# Altium integrated library NSC Audio.IntLib: 691 symbols (part 4 of 18)
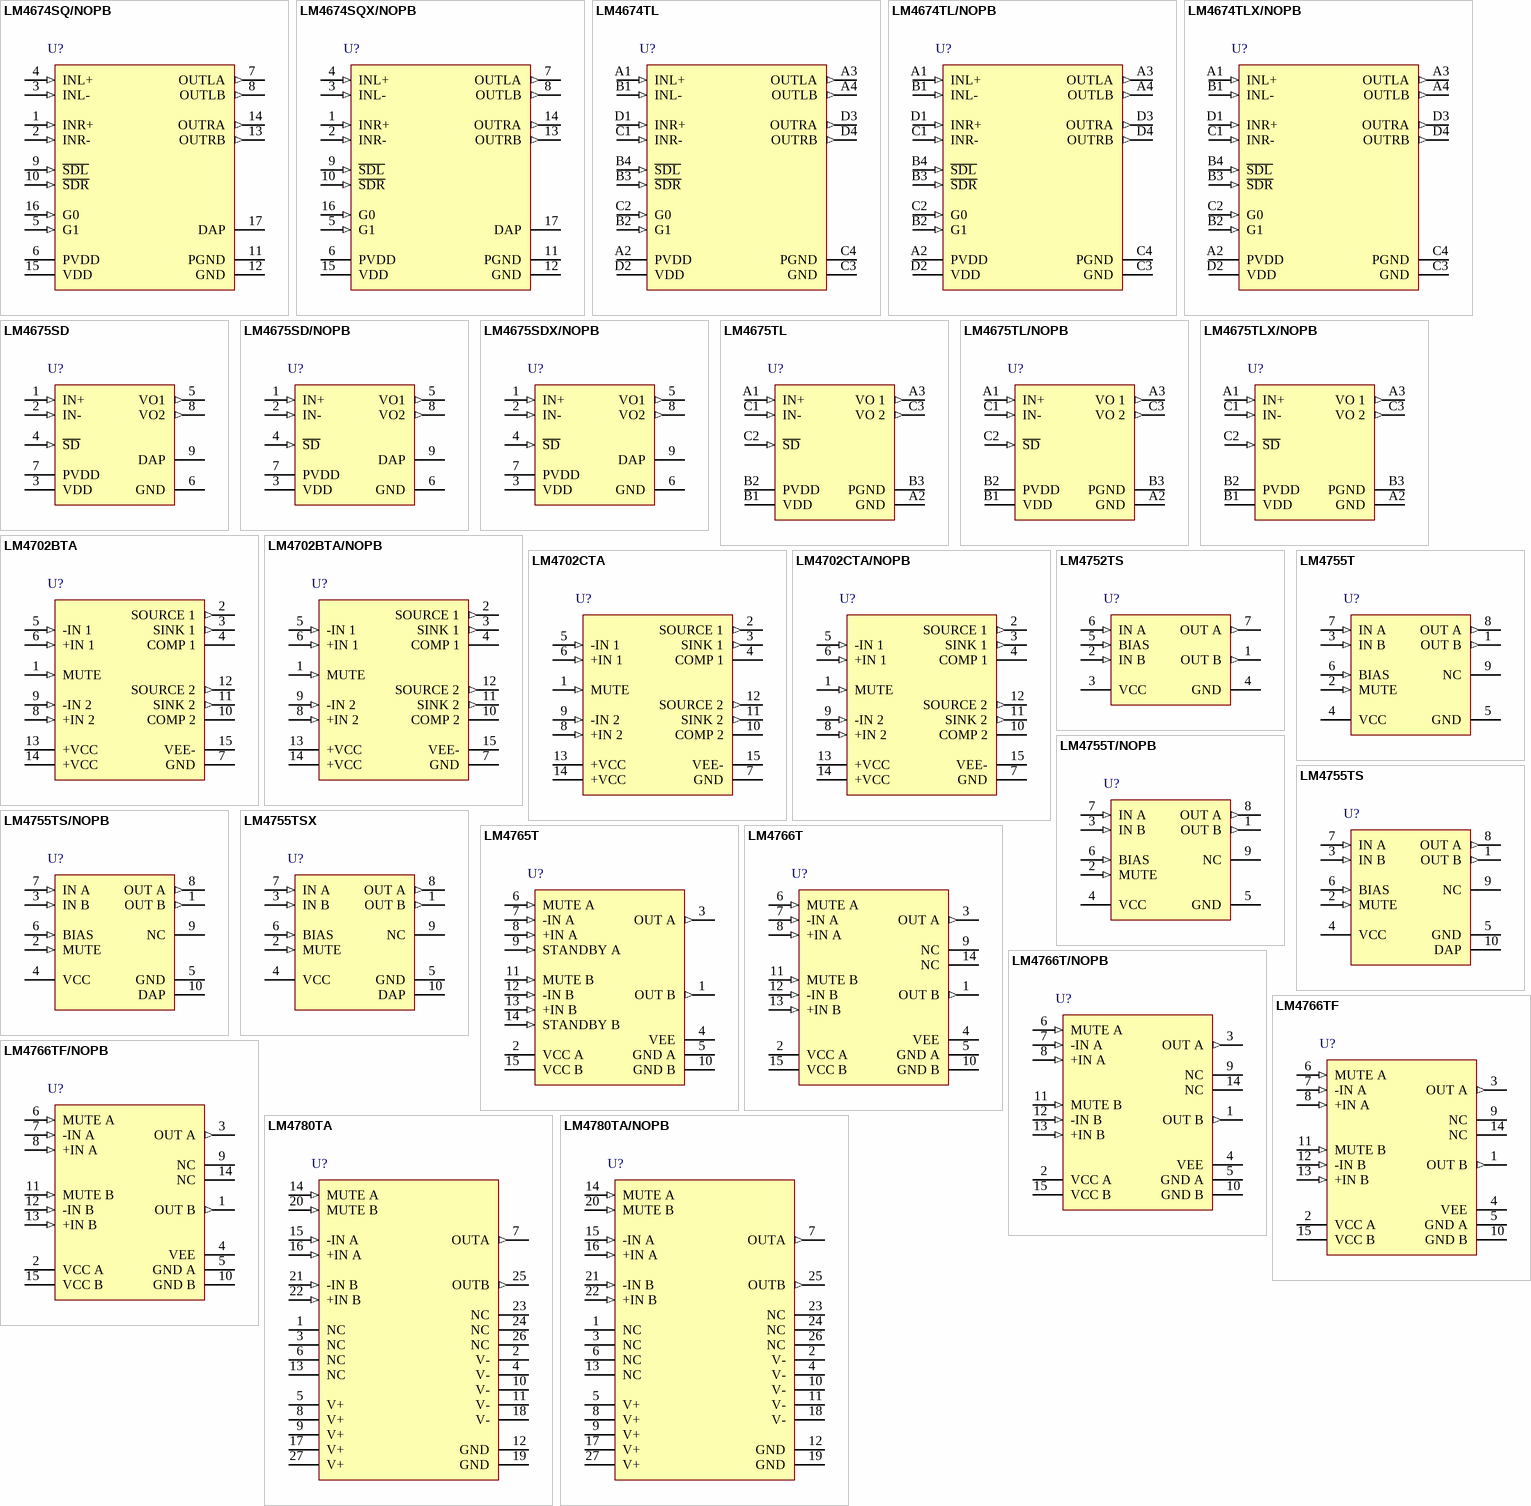
[diagram p30: symbols LM4674SQ/NOPB to LM4780TA/NOPB]

## LM4675SD
designator U?
Ultra-Low EMI, Filterless, 2.65W, Mono, Class D Audio Power Amplifier with Spread Spectrum, 9-pin LLP; PartNumber: LM4675SD; Manufacturer: National Semiconductor; PackageTopMarking: ZXYTT*L4675; PowerWise: N; CompType: Audio IC; Published: 4-Dec-2008; DatasheetVersion: Jul-2008; PackageVersion: revA, Aug-2003; PackageReference: SDA08A; Publisher: Altium Limited; PackageDescription: LLP, Plastic, Dual, 3 x 3 x 0.8mm Body, 8 Lead, 0.5mm Pitch, No Pullback; RoHS: Y; PinCount: 8; ComponentLink1Description: LM4675 Datasheet; ComponentLink1URL: http://www.national.com/ds/LM/LM4675.pdf; ComponentLink2Description: LM4675 Web Page; ComponentLink2URL: http://www.national.com/pf/LM/LM4675.html; ComponentLink3Description: SDA08A Package Page; ComponentLink3URL: http://www.national.com/packaging/folders/sda08a.html
footprint SDA08A (SON, 8-Leads, Body 3x3mm, Pitch 0.5mm, NSC Recommended)
pins: 1 IN+ (in), 2 IN- (in), 3 VDD (power), 4 ~{SD} (in), 5 VO1 (out), 6 GND (power), 7 PVDD (power), 8 VO2 (out), 9 DAP (power)

## LM4675SD/NOPB
designator U?
Ultra-Low EMI, Filterless, 2.65W, Mono, Class D Audio Power Amplifier with Spread Spectrum, 8-pin LLP, Pb-Free; PartNumber: LM4675SD/NOPB; Manufacturer: National Semiconductor; PackageTopMarking: ZXYTT*L4675; PowerWise: N; CompType: Audio IC; Published: 1-Mar-2010; DatasheetVersion: Jul-2008; PackageVersion: revA, Aug-2003; PackageReference: SDA08A; Publisher: Altium Limited; PackageDescription: LLP, Plastic, Dual, 3 x 3 x 0.8mm Body, 8 Lead, 0.5mm Pitch, No Pullback; Supplier 1: Digi-Key; Supplier Part Number 1: LM4675SDTR-ND; Supplier 2: Digi-Key; Supplier Part Number 2: LM4675SDCT-ND; Supplier 3: Digi-Key; Supplier Part Number 3: LM4675SDDKR-ND; Supplier 4: Farnell; Supplier Part Number 4: 1694491; RoHS: Y; PinCount: 8; ComponentLink1Description: LM4675 Datasheet; ComponentLink1URL: http://www.national.com/ds/LM/LM4675.pdf; ComponentLink2Description: LM4675 Web Page; ComponentLink2URL: http://www.national.com/pf/LM/LM4675.html; ComponentLink3Description: SDA08A Package Page; ComponentLink3URL: http://www.national.com/packaging/folders/sda08a.html
footprint SDA08A (SON, 8-Leads, Body 3x3mm, Pitch 0.5mm, NSC Recommended)
pins: 1 IN+ (in), 2 IN- (in), 3 VDD (power), 4 ~{SD} (in), 5 VO1 (out), 6 GND (power), 7 PVDD (power), 8 VO2 (out), 9 DAP (power)

## LM4675SDX/NOPB
designator U?
Ultra-Low EMI, Filterless, 2.65W, Mono, Class D Audio Power Amplifier with Spread Spectrum, 8-pin LLP, Pb-Free; PartNumber: LM4675SDX/NOPB; Manufacturer: National Semiconductor; PackageTopMarking: ZXYTT*L4675; PowerWise: N; CompType: Audio IC; Published: 1-Mar-2010; DatasheetVersion: Jul-2008; PackageVersion: revA, Aug-2003; PackageReference: SDA08A; Publisher: Altium Limited; PackageDescription: LLP, Plastic, Dual, 3 x 3 x 0.8mm Body, 8 Lead, 0.5mm Pitch, No Pullback; Supplier 1: Digi-Key; Supplier Part Number 1: LM4675SDX-ND; RoHS: Y; PinCount: 8; ComponentLink1Description: LM4675 Datasheet; ComponentLink1URL: http://www.national.com/ds/LM/LM4675.pdf; ComponentLink2Description: LM4675 Web Page; ComponentLink2URL: http://www.national.com/pf/LM/LM4675.html; ComponentLink3Description: SDA08A Package Page; ComponentLink3URL: http://www.national.com/packaging/folders/sda08a.html
footprint SDA08A (SON, 8-Leads, Body 3x3mm, Pitch 0.5mm, NSC Recommended)
pins: 1 IN+ (in), 2 IN- (in), 3 VDD (power), 4 ~{SD} (in), 5 VO1 (out), 6 GND (power), 7 PVDD (power), 8 VO2 (out), 9 DAP (power)

## LM4675TL
designator U?
Ultra-Low EMI, Filterless, 2.65W, Mono, Class D Audio Power Amplifier with Spread Spectrum, 9-pin Micro SMD; PartNumber: LM4675TL; Manufacturer: National Semiconductor; PackageTopMarking: XVG*I H8; PowerWise: Y; CompType: Audio IC; Published: 4-Dec-2008; DatasheetVersion: Jul-2008; PackageVersion: revC, Jan-2004; PackageReference: TLA09AAA; Publisher: Altium Limited; PackageDescription: Thin Micro SMD, 9 Bump (Large), 0.5mm Pitch; RoHS: Y; PinCount: 9; Code_JEDEC: MO-211-DD; ComponentLink1Description: LM4675 Datasheet; ComponentLink1URL: http://www.national.com/ds/LM/LM4675.pdf; ComponentLink2Description: LM4675 Web Page; ComponentLink2URL: http://www.national.com/pf/LM/LM4675.html; ComponentLink3Description: TLA09AAA Package Page; ComponentLink3URL: http://www.national.com/packaging/folders/tla09aaa.html
footprint TLA09AAA (Micro SMD, 9-Leads, Body 1.52x1.52mm, Pitch 0.5mm, NSC Recommended)
pins: A1 IN+ (in), A2 GND (power), A3 VO 1 (out), B1 VDD (power), B2 PVDD (power), B3 PGND (power), C1 IN- (in), C2 ~{SD} (in), C3 VO 2 (out)

## LM4675TL/NOPB
designator U?
Ultra-Low EMI, Filterless, 2.65W, Mono, Class D Audio Power Amplifier with Spread Spectrum, 9-pin Micro SMD, Pb-Free; PartNumber: LM4675TL/NOPB; Manufacturer: National Semiconductor; PackageTopMarking: XVG*I H8; PowerWise: Y; CompType: Audio IC; Published: 1-Mar-2010; DatasheetVersion: Jul-2008; PackageVersion: revC, Jan-2004; PackageReference: TLA09AAA; Publisher: Altium Limited; PackageDescription: Thin Micro SMD, 9 Bump (Large), 0.5mm Pitch; Supplier 1: Digi-Key; Supplier Part Number 1: LM4675TLTR-ND; Supplier 2: Digi-Key; Supplier Part Number 2: LM4675TLCT-ND; Supplier 3: Digi-Key; Supplier Part Number 3: LM4675TLDKR-ND; RoHS: Y; PinCount: 9; Code_JEDEC: MO-211-DD; ComponentLink1Description: LM4675 Datasheet; ComponentLink1URL: http://www.national.com/ds/LM/LM4675.pdf; ComponentLink2Description: LM4675 Web Page; ComponentLink2URL: http://www.national.com/pf/LM/LM4675.html; ComponentLink3Description: TLA09AAA Package Page; ComponentLink3URL: http://www.national.com/packaging/folders/tla09aaa.html
footprint TLA09AAA (Micro SMD, 9-Leads, Body 1.52x1.52mm, Pitch 0.5mm, NSC Recommended)
pins: A1 IN+ (in), A2 GND (power), A3 VO 1 (out), B1 VDD (power), B2 PVDD (power), B3 PGND (power), C1 IN- (in), C2 ~{SD} (in), C3 VO 2 (out)

## LM4675TLX/NOPB
designator U?
Ultra-Low EMI, Filterless, 2.65W, Mono, Class D Audio Power Amplifier with Spread Spectrum, 9-pin Micro SMD, Pb-Free; PartNumber: LM4675TLX/NOPB; Manufacturer: National Semiconductor; PackageTopMarking: XVG*I H8; PowerWise: Y; CompType: Audio IC; Published: 1-Mar-2010; DatasheetVersion: Jul-2008; PackageVersion: revC, Jan-2004; PackageReference: TLA09AAA; Publisher: Altium Limited; PackageDescription: Thin Micro SMD, 9 Bump (Large), 0.5mm Pitch; Supplier 1: Digi-Key; Supplier Part Number 1: LM4675TLX-ND; RoHS: Y; PinCount: 9; Code_JEDEC: MO-211-DD; ComponentLink1Description: LM4675 Datasheet; ComponentLink1URL: http://www.national.com/ds/LM/LM4675.pdf; ComponentLink2Description: LM4675 Web Page; ComponentLink2URL: http://www.national.com/pf/LM/LM4675.html; ComponentLink3Description: TLA09AAA Package Page; ComponentLink3URL: http://www.national.com/packaging/folders/tla09aaa.html
footprint TLA09AAA (Micro SMD, 9-Leads, Body 1.52x1.52mm, Pitch 0.5mm, NSC Recommended)
pins: A1 IN+ (in), A2 GND (power), A3 VO 1 (out), B1 VDD (power), B2 PVDD (power), B3 PGND (power), C1 IN- (in), C2 ~{SD} (in), C3 VO 2 (out)

## LM4702BTA
designator U?
Stereo High Fidelity 200 Volt Driver with Mute, 15-pin TO-220; PartNumber: LM4702BTA; Manufacturer: National Semiconductor; PackageTopMarking: NSUZXYTTE#*LM4702BTA; PowerWise: N; CompType: Audio IC; Published: 4-Dec-2008; DatasheetVersion: Sep-2006; PackageVersion: revA, Nov-1985; PackageReference: TA15A; Publisher: Altium Limited; PackageDescription: TO-220, Molded, .788 x .421in Body, 15 Lead, .05in Pitch; RoHS: Y; PinCount: 15; ComponentLink1Description: LM4702 Datasheet; ComponentLink1URL: http://www.national.com/ds/LM/LM4702.pdf; ComponentLink2Description: LM4702 Web Page; ComponentLink2URL: http://www.national.com/pf/LM/LM4702.html; ComponentLink3Description: TA15A Package Page; ComponentLink3URL: http://www.national.com/packaging/folders/ta15a.html
footprint TA15A (TO, Thru-Hole, Vertical, Heatsink Mounted; 15 Bent Staggered Leads; Body 20x10.7x4.5mm, Pitch 1.27 mm)
pins: 1 MUTE (in), 2 SOURCE 1 (out), 3 SINK 1 (out), 4 COMP 1, 5 -IN 1 (in), 6 +IN 1 (in), 7 GND (power), 8 +IN 2 (in), 9 -IN 2 (in), 10 COMP 2, 11 SINK 2 (out), 12 SOURCE 2 (out), 13 +VCC (power), 14 +VCC (power), 15 VEE- (power)

## LM4702BTA/NOPB
designator U?
Stereo High Fidelity 200 Volt Driver with Mute, 15-pin TO-220, Pb-Free; PartNumber: LM4702BTA/NOPB; Manufacturer: National Semiconductor; PackageTopMarking: NSUZXYTTE#*LM4702BTA; PowerWise: N; CompType: Audio IC; Published: 1-Mar-2010; DatasheetVersion: Sep-2006; PackageVersion: revA, Nov-1985; PackageReference: TA15A; Publisher: Altium Limited; PackageDescription: TO-220, Molded, .788 x .421in Body, 15 Lead, .05in Pitch; Supplier 1: Digi-Key; Supplier Part Number 1: LM4702BTA-ND; Supplier 2: Farnell; Supplier Part Number 2: 1685367; RoHS: Y; PinCount: 15; ComponentLink1Description: LM4702 Datasheet; ComponentLink1URL: http://www.national.com/ds/LM/LM4702.pdf; ComponentLink2Description: LM4702 Web Page; ComponentLink2URL: http://www.national.com/pf/LM/LM4702.html; ComponentLink3Description: TA15A Package Page; ComponentLink3URL: http://www.national.com/packaging/folders/ta15a.html
footprint TA15A (TO, Thru-Hole, Vertical, Heatsink Mounted; 15 Bent Staggered Leads; Body 20x10.7x4.5mm, Pitch 1.27 mm)
pins: 1 MUTE (in), 2 SOURCE 1 (out), 3 SINK 1 (out), 4 COMP 1, 5 -IN 1 (in), 6 +IN 1 (in), 7 GND (power), 8 +IN 2 (in), 9 -IN 2 (in), 10 COMP 2, 11 SINK 2 (out), 12 SOURCE 2 (out), 13 +VCC (power), 14 +VCC (power), 15 VEE- (power)

## LM4702CTA
designator U?
Stereo High Fidelity 200 Volt Driver with Mute, 15-pin TO-220; PartNumber: LM4702CTA; Manufacturer: National Semiconductor; PackageTopMarking: NSUZXYTTE#*LM4702CTA; PowerWise: N; CompType: Audio IC; Published: 4-Dec-2008; DatasheetVersion: Sep-2006; PackageVersion: revA, Nov-1985; PackageReference: TA15A; Publisher: Altium Limited; PackageDescription: TO-220, Molded, .788 x .421in Body, 15 Lead, .05in Pitch; Supplier 1: Farnell; Supplier Part Number 1: 1286760; RoHS: N; PinCount: 15; ComponentLink1Description: LM4702 Datasheet; ComponentLink1URL: http://www.national.com/ds/LM/LM4702.pdf; ComponentLink2Description: LM4702 Web Page; ComponentLink2URL: http://www.national.com/pf/LM/LM4702.html; ComponentLink3Description: TA15A Package Page; ComponentLink3URL: http://www.national.com/packaging/folders/ta15a.html
footprint TA15A (TO, Thru-Hole, Vertical, Heatsink Mounted; 15 Bent Staggered Leads; Body 20x10.7x4.5mm, Pitch 1.27 mm)
pins: 1 MUTE (in), 2 SOURCE 1 (out), 3 SINK 1 (out), 4 COMP 1, 5 -IN 1 (in), 6 +IN 1 (in), 7 GND (power), 8 +IN 2 (in), 9 -IN 2 (in), 10 COMP 2, 11 SINK 2 (out), 12 SOURCE 2 (out), 13 +VCC (power), 14 +VCC (power), 15 VEE- (power)

## LM4702CTA/NOPB
designator U?
Stereo High Fidelity 200 Volt Driver with Mute, 15-pin TO-220, Pb-Free; PartNumber: LM4702CTA/NOPB; Manufacturer: National Semiconductor; PackageTopMarking: NSUZXYTTE#*LM4702CTA; PowerWise: N; CompType: Audio IC; Published: 1-Mar-2010; DatasheetVersion: Sep-2006; PackageVersion: revA, Nov-1985; PackageReference: TA15A; Publisher: Altium Limited; PackageDescription: TO-220, Molded, .788 x .421in Body, 15 Lead, .05in Pitch; Supplier 1: Digi-Key; Supplier Part Number 1: LM4702CTA-ND; Supplier 2: Farnell; Supplier Part Number 2: 1654356; RoHS: Y; PinCount: 15; ComponentLink1Description: LM4702 Datasheet; ComponentLink1URL: http://www.national.com/ds/LM/LM4702.pdf; ComponentLink2Description: LM4702 Web Page; ComponentLink2URL: http://www.national.com/pf/LM/LM4702.html; ComponentLink3Description: TA15A Package Page; ComponentLink3URL: http://www.national.com/packaging/folders/ta15a.html
footprint TA15A (TO, Thru-Hole, Vertical, Heatsink Mounted; 15 Bent Staggered Leads; Body 20x10.7x4.5mm, Pitch 1.27 mm)
pins: 1 MUTE (in), 2 SOURCE 1 (out), 3 SINK 1 (out), 4 COMP 1, 5 -IN 1 (in), 6 +IN 1 (in), 7 GND (power), 8 +IN 2 (in), 9 -IN 2 (in), 10 COMP 2, 11 SINK 2 (out), 12 SOURCE 2 (out), 13 +VCC (power), 14 +VCC (power), 15 VEE- (power)

## LM4752TS
designator U?
Stereo 11W Audio Power Amplifier, 7-pin TO-263; PartNumber: LM4752TS; Manufacturer: National Semiconductor; PackageTopMarking: NSUZXYTTE#*LM4752TS; PowerWise: N; CompType: Audio IC; Published: 4-Dec-2008; DatasheetVersion: May-2008; PackageVersion: revE, Jul-2003; PackageReference: TS7B; Publisher: Altium Limited; PackageDescription: TO-263, Molded, .400 x .390 x .180in Body, 7 Lead, .050in Pitch, Surface Mount; Supplier 1: Farnell; Supplier Part Number 1: 1798325; RoHS: N; PinCount: 7; Code_JEDEC: MO-169-AC; ComponentLink1Description: LM4752 Datasheet; ComponentLink1URL: http://www.national.com/ds/LM/LM4752.pdf; ComponentLink2Description: LM4752 Web Page; ComponentLink2URL: http://www.national.com/pf/LM/LM4752.html; ComponentLink3Description: TS7B Package Page; ComponentLink3URL: http://www.national.com/packaging/folders/ts7b.html
footprint TS7B_N (D2-PAK, 8-Leads, Body 8.6x10.2mm, Pitch 1.27mm, Lead Span 14.1mm, IPC Medium Density)
footprint TS7B_L (D2-PAK, 8-Leads, Body 8.6x10.2mm, Pitch 1.27mm, Lead Span 14.1mm, IPC High Density)
footprint TS7B_M (D2-PAK, 8-Leads, Body 8.6x10.2mm, Pitch 1.27mm, Lead Span 14.1mm, IPC Low Density)
pins: 1 OUT B (out), 2 IN B (in), 3 VCC (power), 4 GND (power), 5 BIAS (in), 6 IN A (in), 7 OUT A (out)

## LM4755T
designator U?
Stereo 11W Audio Power Amplifier with Mute, 9-pin TO-220; PartNumber: LM4755T; Manufacturer: National Semiconductor; PackageTopMarking: NSUZXYTTE#*LM4755T; PowerWise: N; CompType: Audio IC; Published: 29-May-2009; DatasheetVersion: May-2008; PackageVersion: revC, Jul-1999; PackageReference: TA09A; Publisher: Altium Limited; PackageDescription: TO-220, Molded, 9 Lead, Staggered; RoHS: N; PinCount: 9; ComponentLink1Description: LM4755 Datasheet; ComponentLink1URL: http://www.national.com/ds/LM/LM4755.pdf; ComponentLink2Description: LM4755 Web Page; ComponentLink2URL: http://www.national.com/pf/LM/LM4755.html; ComponentLink3Description: TA09A Package Page; ComponentLink3URL: http://www.national.com/packaging/folders/ta09a.html
footprint TA09A (TO, Thru-Hole, Vertical, Heatsink Mounted; 9 Bent Staggered Leads; Body 10.2x8.7x4.6mm, Pitch 0.97 mm)
pins: 1 OUT B (out), 2 MUTE (in), 3 IN B (in), 4 VCC (power), 5 GND (power), 6 BIAS (in), 7 IN A (in), 8 OUT A (out), 9 NC

## LM4755T/NOPB
designator U?
Stereo 11W Audio Power Amplifier with Mute, 9-pin TO-220, Pb-Free; PartNumber: LM4755T/NOPB; Manufacturer: National Semiconductor; PackageTopMarking: NSUZXYTTE#*LM4755T; PowerWise: N; CompType: Audio IC; Published: 1-Mar-2010; DatasheetVersion: May-2008; PackageVersion: revC, Jul-1999; PackageReference: TA09A; Publisher: Altium Limited; PackageDescription: TO-220, Molded, 9 Lead, Staggered; Supplier 1: Digi-Key; Supplier Part Number 1: LM4755T-ND; Supplier 2: Farnell; Supplier Part Number 2: 1564691; RoHS: Y; PinCount: 9; ComponentLink1Description: LM4755 Datasheet; ComponentLink1URL: http://www.national.com/ds/LM/LM4755.pdf; ComponentLink2Description: LM4755 Web Page; ComponentLink2URL: http://www.national.com/pf/LM/LM4755.html; ComponentLink3Description: TA09A Package Page; ComponentLink3URL: http://www.national.com/packaging/folders/ta09a.html
footprint TA09A (TO, Thru-Hole, Vertical, Heatsink Mounted; 9 Bent Staggered Leads; Body 10.2x8.7x4.6mm, Pitch 0.97 mm)
pins: 1 OUT B (out), 2 MUTE (in), 3 IN B (in), 4 VCC (power), 5 GND (power), 6 BIAS (in), 7 IN A (in), 8 OUT A (out), 9 NC

## LM4755TS
designator U?
Stereo 11W Audio Power Amplifier with Mute, 9-pin TO-263; PartNumber: LM4755TS; Manufacturer: National Semiconductor; PackageTopMarking: NSUZXYTTE#*LM4755TS; PowerWise: N; CompType: Audio IC; Published: 4-Dec-2008; DatasheetVersion: May-2008; PackageVersion: revB, Dec-2004; PackageReference: TS9A; Publisher: Altium Limited; PackageDescription: TO-263, Molded, 9 Lead, Surface Mount; RoHS: N; PinCount: 9; ComponentLink1Description: LM4755 Datasheet; ComponentLink1URL: http://www.national.com/ds/LM/LM4755.pdf; ComponentLink2Description: LM4755 Web Page; ComponentLink2URL: http://www.national.com/pf/LM/LM4755.html; ComponentLink3Description: TS9A Package Page; ComponentLink3URL: http://www.national.com/packaging/folders/ts9a.html
footprint TS9A_N (D2-PAK, 10-Leads, Body 8.7x10.2mm, Pitch 0.97mm, Lead Span 14.1mm, IPC Medium Density)
footprint TS9A_L (D2-PAK, 10-Leads, Body 8.7x10.2mm, Pitch 0.97mm, Lead Span 14.1mm, IPC High Density)
footprint TS9A_M (D2-PAK, 10-Leads, Body 8.7x10.2mm, Pitch 0.97mm, Lead Span 14.1mm, IPC Low Density)
pins: 1 OUT B (out), 2 MUTE (in), 3 IN B (in), 4 VCC (power), 5 GND (power), 6 BIAS (in), 7 IN A (in), 8 OUT A (out), 9 NC, 10 DAP (power)

## LM4755TS/NOPB
designator U?
Stereo 11W Audio Power Amplifier with Mute, 9-pin TO-263, Pb-Free; PartNumber: LM4755TS/NOPB; Manufacturer: National Semiconductor; PackageTopMarking: NSUZXYTTE#*LM4755TS; PowerWise: N; CompType: Audio IC; Published: 1-Mar-2010; DatasheetVersion: May-2008; PackageVersion: revB, Dec-2004; PackageReference: TS9A; Publisher: Altium Limited; PackageDescription: TO-263, Molded, 9 Lead, Surface Mount; Supplier 1: Digi-Key; Supplier Part Number 1: LM4755TS-ND; Supplier 2: Farnell; Supplier Part Number 2: 1685378; RoHS: Y; PinCount: 9; ComponentLink1Description: LM4755 Datasheet; ComponentLink1URL: http://www.national.com/ds/LM/LM4755.pdf; ComponentLink2Description: LM4755 Web Page; ComponentLink2URL: http://www.national.com/pf/LM/LM4755.html; ComponentLink3Description: TS9A Package Page; ComponentLink3URL: http://www.national.com/packaging/folders/ts9a.html
footprint TS9A_N (D2-PAK, 10-Leads, Body 8.7x10.2mm, Pitch 0.97mm, Lead Span 14.1mm, IPC Medium Density)
footprint TS9A_L (D2-PAK, 10-Leads, Body 8.7x10.2mm, Pitch 0.97mm, Lead Span 14.1mm, IPC High Density)
footprint TS9A_M (D2-PAK, 10-Leads, Body 8.7x10.2mm, Pitch 0.97mm, Lead Span 14.1mm, IPC Low Density)
pins: 1 OUT B (out), 2 MUTE (in), 3 IN B (in), 4 VCC (power), 5 GND (power), 6 BIAS (in), 7 IN A (in), 8 OUT A (out), 9 NC, 10 DAP (power)

## LM4755TSX
designator U?
Stereo 11W Audio Power Amplifier with Mute, 9-pin TO-263; PartNumber: LM4755TSX; Manufacturer: National Semiconductor; PackageTopMarking: NSUZXYTTE#*LM4755TS; PowerWise: N; CompType: Audio IC; Published: 1-Mar-2010; DatasheetVersion: May-2008; PackageVersion: revB, Dec-2004; PackageReference: TS9A; Publisher: Altium Limited; PackageDescription: TO-263, Molded, 9 Lead, Surface Mount; RoHS: N; PinCount: 9; ComponentLink1Description: LM4755 Datasheet; ComponentLink1URL: http://www.national.com/ds/LM/LM4755.pdf; ComponentLink2Description: LM4755 Web Page; ComponentLink2URL: http://www.national.com/pf/LM/LM4755.html; ComponentLink3Description: TS9A Package Page; ComponentLink3URL: http://www.national.com/packaging/folders/ts9a.html
footprint TS9A_N (D2-PAK, 10-Leads, Body 8.7x10.2mm, Pitch 0.97mm, Lead Span 14.1mm, IPC Medium Density)
footprint TS9A_L (D2-PAK, 10-Leads, Body 8.7x10.2mm, Pitch 0.97mm, Lead Span 14.1mm, IPC High Density)
footprint TS9A_M (D2-PAK, 10-Leads, Body 8.7x10.2mm, Pitch 0.97mm, Lead Span 14.1mm, IPC Low Density)
pins: 1 OUT B (out), 2 MUTE (in), 3 IN B (in), 4 VCC (power), 5 GND (power), 6 BIAS (in), 7 IN A (in), 8 OUT A (out), 9 NC, 10 DAP (power)

## LM4765T
designator U?
Overture Audio Power Amplifier Series Dual 30-Watt Audio Power Amplifier with Mute and Standby Modes, 15-pin TO-220; PartNumber: LM4765T; Manufacturer: National Semiconductor; PackageTopMarking: NSUZXYTTE#*LM4765T; PowerWise: N; CompType: Audio IC; Published: 4-Dec-2008; DatasheetVersion: Aug-2000; PackageVersion: revA, Nov-1985; PackageReference: TA15A; Publisher: Altium Limited; PackageDescription: TO-220, Molded, .788 x .421in Body, 15 Lead, .05in Pitch; RoHS: N; PinCount: 15; ComponentLink1Description: LM4765 Datasheet; ComponentLink1URL: http://www.national.com/ds/LM/LM4765.pdf; ComponentLink2Description: LM4765 Web Page; ComponentLink2URL: http://www.national.com/pf/LM/LM4765.html; ComponentLink3Description: TA15A Package Page; ComponentLink3URL: http://www.national.com/packaging/folders/ta15a.html
footprint TA15A (TO, Thru-Hole, Vertical, Heatsink Mounted; 15 Bent Staggered Leads; Body 20x10.7x4.5mm, Pitch 1.27 mm)
pins: 1 OUT B (out), 2 VCC A (power), 3 OUT A (out), 4 VEE (power), 5 GND A (power), 6 MUTE A (in), 7 -IN A (in), 8 +IN A (in), 9 STANDBY A (in), 10 GND B (power), 11 MUTE B (in), 12 -IN B (in), 13 +IN B (in), 14 STANDBY B (in), 15 VCC B (power)

## LM4766T
designator U?
Overture Audio Power Amplifier Series Dual 40-Watt Audio Power Amplifier with Mute, 15-pin TO-220; PartNumber: LM4766T; Manufacturer: National Semiconductor; PackageTopMarking: NSUZXYTTE#*LM4766T; PowerWise: N; CompType: Audio IC; Published: 4-Dec-2008; DatasheetVersion: Mar-2006; PackageVersion: revA, Nov-1985; PackageReference: TA15A; Publisher: Altium Limited; PackageDescription: TO-220, Molded, .788 x .421in Body, 15 Lead, .05in Pitch; Supplier 1: Farnell; Supplier Part Number 1: 9485864; RoHS: N; PinCount: 15; ComponentLink1Description: LM4766 Datasheet; ComponentLink1URL: http://www.national.com/ds/LM/LM4766.pdf; ComponentLink2Description: LM4766 Web Page; ComponentLink2URL: http://www.national.com/pf/LM/LM4766.html; ComponentLink3Description: TA15A Package Page; ComponentLink3URL: http://www.national.com/packaging/folders/ta15a.html
footprint TA15A (TO, Thru-Hole, Vertical, Heatsink Mounted; 15 Bent Staggered Leads; Body 20x10.7x4.5mm, Pitch 1.27 mm)
pins: 1 OUT B (out), 2 VCC A (power), 3 OUT A (out), 4 VEE (power), 5 GND A (power), 6 MUTE A (in), 7 -IN A (in), 8 +IN A (in), 9 NC, 10 GND B (power), 11 MUTE B (in), 12 -IN B (in), 13 +IN B (in), 14 NC, 15 VCC B (power)

## LM4766T/NOPB
designator U?
Overture Audio Power Amplifier Series Dual 40-Watt Audio Power Amplifier with Mute, 15-pin TO-220, Pb-Free; PartNumber: LM4766T/NOPB; Manufacturer: National Semiconductor; PackageTopMarking: NSUZXYTTE#*LM4766T; PowerWise: N; CompType: Audio IC; Published: 1-Mar-2010; DatasheetVersion: Mar-2006; PackageVersion: revA, Nov-1985; PackageReference: TA15A; Publisher: Altium Limited; PackageDescription: TO-220, Molded, .788 x .421in Body, 15 Lead, .05in Pitch; Supplier 1: Digi-Key; Supplier Part Number 1: LM4766T-ND; Supplier 2: Farnell; Supplier Part Number 2: 1184990; RoHS: Y; PinCount: 15; ComponentLink1Description: LM4766 Datasheet; ComponentLink1URL: http://www.national.com/ds/LM/LM4766.pdf; ComponentLink2Description: LM4766 Web Page; ComponentLink2URL: http://www.national.com/pf/LM/LM4766.html; ComponentLink3Description: TA15A Package Page; ComponentLink3URL: http://www.national.com/packaging/folders/ta15a.html
footprint TA15A (TO, Thru-Hole, Vertical, Heatsink Mounted; 15 Bent Staggered Leads; Body 20x10.7x4.5mm, Pitch 1.27 mm)
pins: 1 OUT B (out), 2 VCC A (power), 3 OUT A (out), 4 VEE (power), 5 GND A (power), 6 MUTE A (in), 7 -IN A (in), 8 +IN A (in), 9 NC, 10 GND B (power), 11 MUTE B (in), 12 -IN B (in), 13 +IN B (in), 14 NC, 15 VCC B (power)

## LM4766TF
designator U?
Overture Audio Power Amplifier Series Dual 40-Watt Audio Power Amplifier with Mute, 15-pin Isolated TO220; PartNumber: LM4766TF; Manufacturer: National Semiconductor; PackageTopMarking: NSUZXYTTE#*LM4766TF; PowerWise: N; CompType: Audio IC; Published: 4-Dec-2008; DatasheetVersion: Mar-2006; PackageVersion: revB, Feb-1994; PackageReference: TF15B; Publisher: Altium Limited; PackageDescription: TO-220, Molded, 15 Lead, Staggered, Isolated; RoHS: N; PinCount: 15; ComponentLink1Description: LM4766 Datasheet; ComponentLink1URL: http://www.national.com/ds/LM/LM4766.pdf; ComponentLink2Description: LM4766 Web Page; ComponentLink2URL: http://www.national.com/pf/LM/LM4766.html; ComponentLink3Description: TF15B Package Page; ComponentLink3URL: http://www.national.com/packaging/folders/tf15b.html
footprint TF15B (TO, Thru-Hole, Vertical, Heatsink Mounted; 15 Bent Staggered Leads; Body 20x10.6x4.5mm, Pitch 1.27 mm)
pins: 1 OUT B (out), 2 VCC A (power), 3 OUT A (out), 4 VEE (power), 5 GND A (power), 6 MUTE A (in), 7 -IN A (in), 8 +IN A (in), 9 NC, 10 GND B (power), 11 MUTE B (in), 12 -IN B (in), 13 +IN B (in), 14 NC, 15 VCC B (power)

## LM4766TF/NOPB
designator U?
Overture Audio Power Amplifier Series Dual 40-Watt Audio Power Amplifier with Mute, 15-pin Isolated TO220, Pb-Free; PartNumber: LM4766TF/NOPB; Manufacturer: National Semiconductor; PackageTopMarking: NSUZXYTTE#*LM4766TF; PowerWise: N; CompType: Audio IC; Published: 1-Mar-2010; DatasheetVersion: Mar-2006; PackageVersion: revB, Feb-1994; PackageReference: TF15B; Publisher: Altium Limited; PackageDescription: TO-220, Molded, 15 Lead, Staggered, Isolated; Supplier 1: Digi-Key; Supplier Part Number 1: LM4766TF-ND; Supplier 2: Farnell; Supplier Part Number 2: 1685379; RoHS: Y; PinCount: 15; ComponentLink1Description: LM4766 Datasheet; ComponentLink1URL: http://www.national.com/ds/LM/LM4766.pdf; ComponentLink2Description: LM4766 Web Page; ComponentLink2URL: http://www.national.com/pf/LM/LM4766.html; ComponentLink3Description: TF15B Package Page; ComponentLink3URL: http://www.national.com/packaging/folders/tf15b.html
footprint TF15B (TO, Thru-Hole, Vertical, Heatsink Mounted; 15 Bent Staggered Leads; Body 20x10.6x4.5mm, Pitch 1.27 mm)
pins: 1 OUT B (out), 2 VCC A (power), 3 OUT A (out), 4 VEE (power), 5 GND A (power), 6 MUTE A (in), 7 -IN A (in), 8 +IN A (in), 9 NC, 10 GND B (power), 11 MUTE B (in), 12 -IN B (in), 13 +IN B (in), 14 NC, 15 VCC B (power)

## LM4780TA
designator U?
Overture Audio Power Amplifier Series Stereo 60W, Mono 120W Audio Power Amplifier with Mute, 27-pin TO-220; PartNumber: LM4780TA; Manufacturer: National Semiconductor; PackageTopMarking: NSUZXYTTE#*L4780TA; PowerWise: N; CompType: Audio IC; Published: 4-Dec-2008; DatasheetVersion: Jan-2010; PackageVersion: revB, Apr-2003; PackageReference: TA27A; Publisher: Altium Limited; PackageDescription: TO-220, Molded, 1.150 x .618 x .177in Body, 27 Lead, .040in Pitch; Supplier 1: Farnell; Supplier Part Number 1: 9490620; RoHS: N; PinCount: 27; ComponentLink1Description: LM4780 Datasheet; ComponentLink1URL: http://www.national.com/ds/LM/LM4780.pdf; ComponentLink2Description: LM4780 Web Page; ComponentLink2URL: http://www.national.com/pf/LM/LM4780.html; ComponentLink3Description: TA27A Package Page; ComponentLink3URL: http://www.national.com/packaging/folders/ta27a.html
footprint TA27A (In-Line; 27 Zig-Zag Leads; Body 29.2 x 4.5mm; Pitch 1mm)
pins: 1 NC, 2 V- (power), 3 NC, 4 V- (power), 5 V+ (power), 6 NC, 7 OUTA (out), 8 V+ (power), 9 V+ (power), 10 V- (power), 11 V- (power), 12 GND (power), 13 NC, 14 MUTE A (in), 15 -IN A (in), 16 +IN A (in), 17 V+ (power), 18 V- (power), 19 GND (power), 20 MUTE B (in), 21 -IN B (in), 22 +IN B (in), 23 NC, 24 NC, 25 OUTB (out), 26 NC, 27 V+ (power)

## LM4780TA/NOPB
designator U?
Overture Audio Power Amplifier Series Stereo 60W, Mono 120W Audio Power Amplifier with Mute, 27-pin TO-220, Pb-Free; PartNumber: LM4780TA/NOPB; Manufacturer: National Semiconductor; PackageTopMarking: NSUZXYTTE#*L4780TA; PowerWise: N; CompType: Audio IC; Published: 1-Mar-2010; DatasheetVersion: Jan-2010; PackageVersion: revB, Apr-2003; PackageReference: TA27A; Publisher: Altium Limited; PackageDescription: TO-220, Molded, 1.150 x .618 x .177in Body, 27 Lead, .040in Pitch; Supplier 1: Digi-Key; Supplier Part Number 1: LM4780TA-ND; Supplier 2: Farnell; Supplier Part Number 2: 1694355; RoHS: Y; PinCount: 27; ComponentLink1Description: LM4780 Datasheet; ComponentLink1URL: http://www.national.com/ds/LM/LM4780.pdf; ComponentLink2Description: LM4780 Web Page; ComponentLink2URL: http://www.national.com/pf/LM/LM4780.html; ComponentLink3Description: TA27A Package Page; ComponentLink3URL: http://www.national.com/packaging/folders/ta27a.html
footprint TA27A (In-Line; 27 Zig-Zag Leads; Body 29.2 x 4.5mm; Pitch 1mm)
pins: 1 NC, 2 V- (power), 3 NC, 4 V- (power), 5 V+ (power), 6 NC, 7 OUTA (out), 8 V+ (power), 9 V+ (power), 10 V- (power), 11 V- (power), 12 GND (power), 13 NC, 14 MUTE A (in), 15 -IN A (in), 16 +IN A (in), 17 V+ (power), 18 V- (power), 19 GND (power), 20 MUTE B (in), 21 -IN B (in), 22 +IN B (in), 23 NC, 24 NC, 25 OUTB (out), 26 NC, 27 V+ (power)

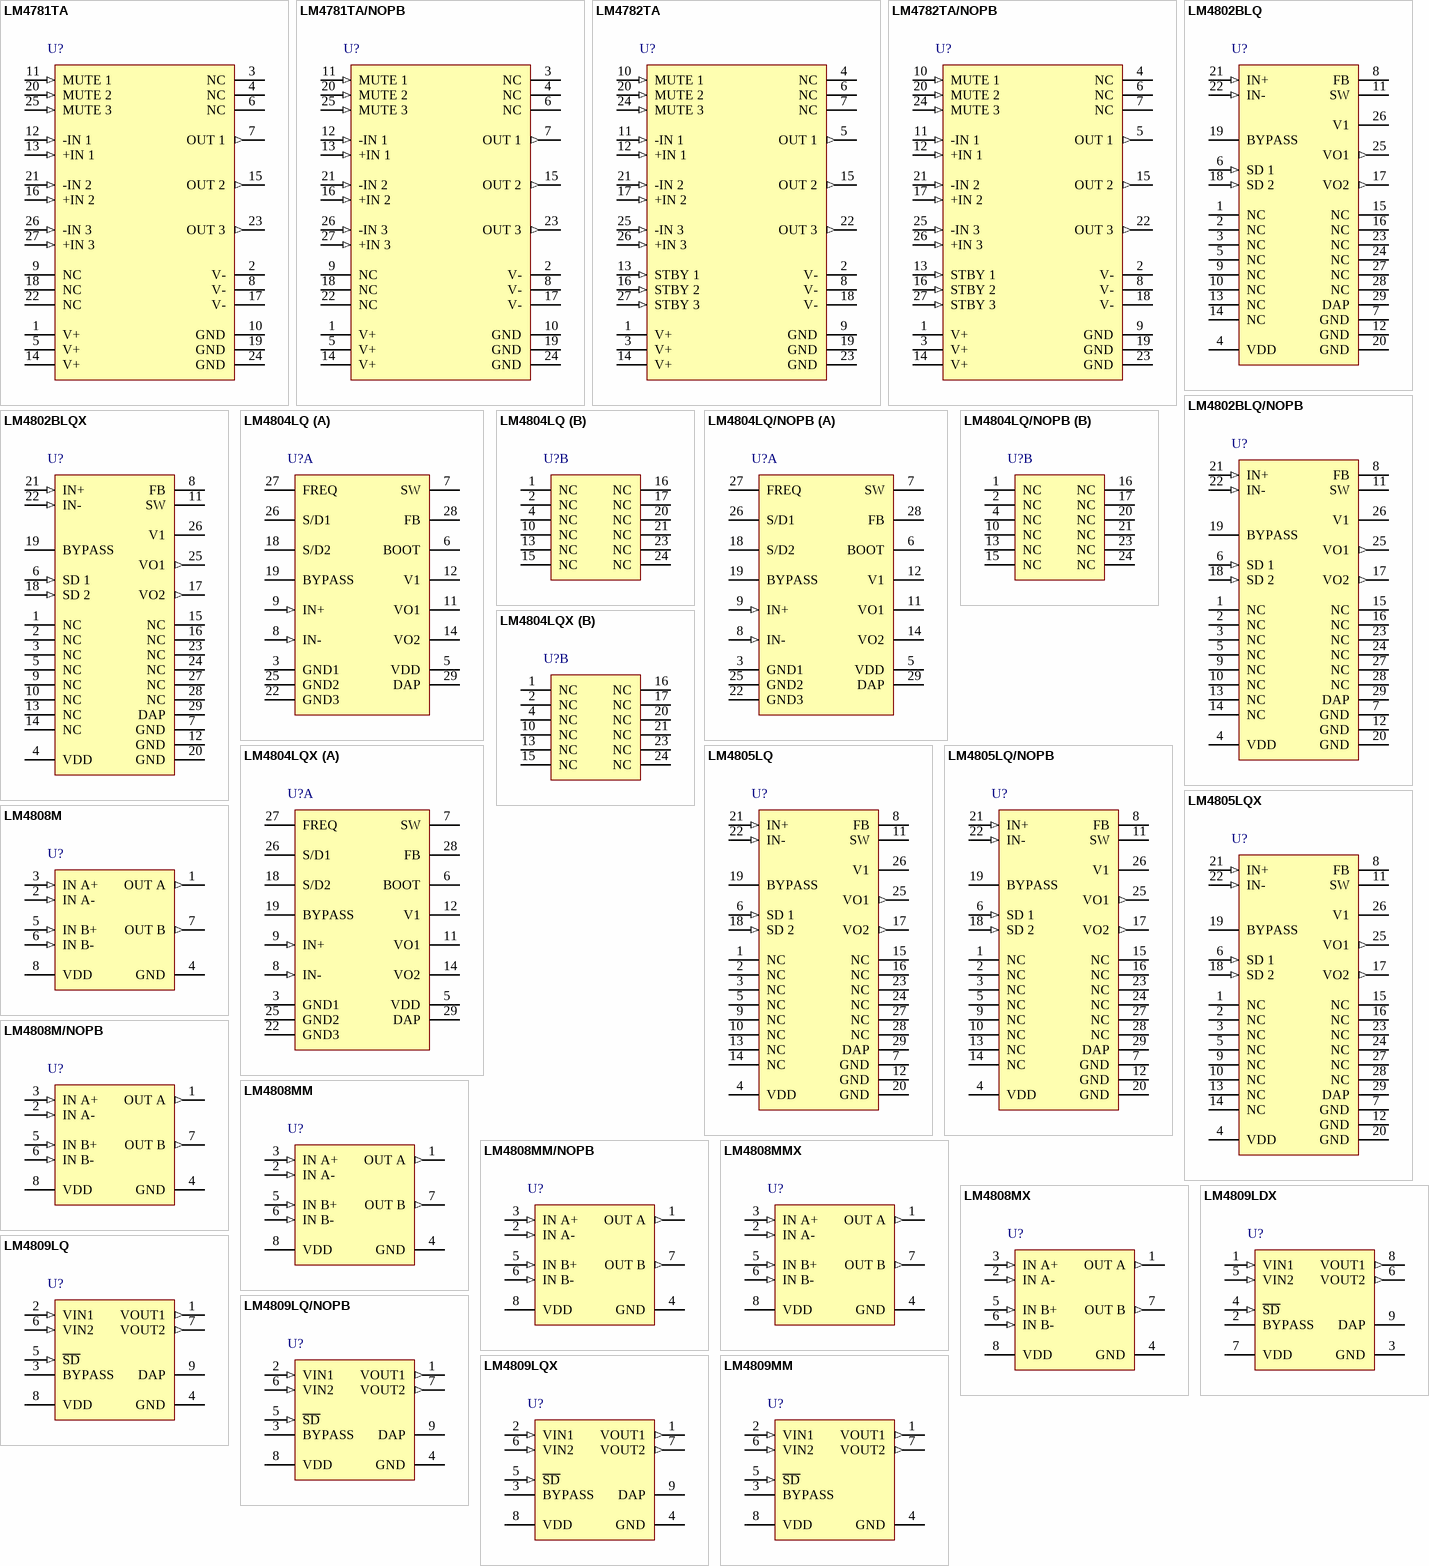
[diagram p5: symbols LM4781TA to LM4809MM]

## LM4781TA
designator U?
Overture Audio Power Amplifier Series 3 Channel 35W Audio Power Amplifier with Mute, 27-pin TO-220; PartNumber: LM4781TA; Manufacturer: National Semiconductor; PackageTopMarking: NSUZXYTTE#*L4781TA; PowerWise: N; CompType: Audio IC; Published: 4-Dec-2008; DatasheetVersion: Aug-2003; PackageVersion: revB, Apr-2003; PackageReference: TA27A; Publisher: Altium Limited; PackageDescription: TO-220, Molded, 1.150 x .618 x .177in Body, 27 Lead, .040in Pitch; RoHS: N; PinCount: 27; ComponentLink1Description: LM4781 Datasheet; ComponentLink1URL: http://www.national.com/ds/LM/LM4781.pdf; ComponentLink2Description: LM4781 Web Page; ComponentLink2URL: http://www.national.com/pf/LM/LM4781.html; ComponentLink3Description: TA27A Package Page; ComponentLink3URL: http://www.national.com/packaging/folders/ta27a.html
footprint TA27A (In-Line; 27 Zig-Zag Leads; Body 29.2 x 4.5mm; Pitch 1mm)
pins: 1 V+ (power), 2 V- (power), 3 NC, 4 NC, 5 V+ (power), 6 NC, 7 OUT 1 (out), 8 V- (power), 9 NC, 10 GND (power), 11 MUTE 1 (in), 12 -IN 1 (in), 13 +IN 1 (in), 14 V+ (power), 15 OUT 2 (out), 16 +IN 2 (in), 17 V- (power), 18 NC, 19 GND (power), 20 MUTE 2 (in), 21 -IN 2 (in), 22 NC, 23 OUT 3 (out), 24 GND (power), 25 MUTE 3 (in), 26 -IN 3 (in), 27 +IN 3 (in)

## LM4781TA/NOPB
designator U?
Overture Audio Power Amplifier Series 3 Channel 35W Audio Power Amplifier with Mute, 27-pin TO-220, Pb-Free; PartNumber: LM4781TA/NOPB; Manufacturer: National Semiconductor; PackageTopMarking: NSUZXYTTE#*L4781TA; PowerWise: N; CompType: Audio IC; Published: 1-Mar-2010; DatasheetVersion: Aug-2003; PackageVersion: revB, Apr-2003; PackageReference: TA27A; Publisher: Altium Limited; PackageDescription: TO-220, Molded, 1.150 x .618 x .177in Body, 27 Lead, .040in Pitch; Supplier 1: Digi-Key; Supplier Part Number 1: LM4781TA-ND; RoHS: Y; PinCount: 27; ComponentLink1Description: LM4781 Datasheet; ComponentLink1URL: http://www.national.com/ds/LM/LM4781.pdf; ComponentLink2Description: LM4781 Web Page; ComponentLink2URL: http://www.national.com/pf/LM/LM4781.html; ComponentLink3Description: TA27A Package Page; ComponentLink3URL: http://www.national.com/packaging/folders/ta27a.html
footprint TA27A (In-Line; 27 Zig-Zag Leads; Body 29.2 x 4.5mm; Pitch 1mm)
pins: 1 V+ (power), 2 V- (power), 3 NC, 4 NC, 5 V+ (power), 6 NC, 7 OUT 1 (out), 8 V- (power), 9 NC, 10 GND (power), 11 MUTE 1 (in), 12 -IN 1 (in), 13 +IN 1 (in), 14 V+ (power), 15 OUT 2 (out), 16 +IN 2 (in), 17 V- (power), 18 NC, 19 GND (power), 20 MUTE 2 (in), 21 -IN 2 (in), 22 NC, 23 OUT 3 (out), 24 GND (power), 25 MUTE 3 (in), 26 -IN 3 (in), 27 +IN 3 (in)

## LM4782TA
designator U?
3 Channel 25W Audio Power Amplifier with Mute and Standby, 27-pin TO-220; PartNumber: LM4782TA; Manufacturer: National Semiconductor; PackageTopMarking: NSUZXYTTE#*LM4782TA; PowerWise: N; CompType: Audio IC; Published: 4-Dec-2008; DatasheetVersion: Mar-2006; PackageVersion: revB, Apr-2003; PackageReference: TA27A; Publisher: Altium Limited; PackageDescription: TO-220, Molded, 1.150 x .618 x .177in Body, 27 Lead, .040in Pitch; RoHS: N; PinCount: 27; ComponentLink1Description: LM4782 Datasheet; ComponentLink1URL: http://www.national.com/ds/LM/LM4782.pdf; ComponentLink2Description: LM4782 Web Page; ComponentLink2URL: http://www.national.com/pf/LM/LM4782.html; ComponentLink3Description: TA27A Package Page; ComponentLink3URL: http://www.national.com/packaging/folders/ta27a.html
footprint TA27A (In-Line; 27 Zig-Zag Leads; Body 29.2 x 4.5mm; Pitch 1mm)
pins: 1 V+ (power), 2 V- (power), 3 V+ (power), 4 NC, 5 OUT 1 (out), 6 NC, 7 NC, 8 V- (power), 9 GND (power), 10 MUTE 1 (in), 11 -IN 1 (in), 12 +IN 1 (in), 13 STBY 1 (in), 14 V+ (power), 15 OUT 2 (out), 16 STBY 2 (in), 17 +IN 2 (in), 18 V- (power), 19 GND (power), 20 MUTE 2 (in), 21 -IN 2 (in), 22 OUT 3 (out), 23 GND (power), 24 MUTE 3 (in), 25 -IN 3 (in), 26 +IN 3 (in), 27 STBY 3 (in)

## LM4782TA/NOPB
designator U?
3 Channel 25W Audio Power Amplifier with Mute and Standby, 27-pin TO-220, Pb-Free; PartNumber: LM4782TA/NOPB; Manufacturer: National Semiconductor; PackageTopMarking: NSUZXYTTE#*LM4782TA; PowerWise: N; CompType: Audio IC; Published: 1-Mar-2010; DatasheetVersion: Mar-2006; PackageVersion: revB, Apr-2003; PackageReference: TA27A; Publisher: Altium Limited; PackageDescription: TO-220, Molded, 1.150 x .618 x .177in Body, 27 Lead, .040in Pitch; Supplier 1: Digi-Key; Supplier Part Number 1: LM4782TA-ND; RoHS: Y; PinCount: 27; ComponentLink1Description: LM4782 Datasheet; ComponentLink1URL: http://www.national.com/ds/LM/LM4782.pdf; ComponentLink2Description: LM4782 Web Page; ComponentLink2URL: http://www.national.com/pf/LM/LM4782.html; ComponentLink3Description: TA27A Package Page; ComponentLink3URL: http://www.national.com/packaging/folders/ta27a.html
footprint TA27A (In-Line; 27 Zig-Zag Leads; Body 29.2 x 4.5mm; Pitch 1mm)
pins: 1 V+ (power), 2 V- (power), 3 V+ (power), 4 NC, 5 OUT 1 (out), 6 NC, 7 NC, 8 V- (power), 9 GND (power), 10 MUTE 1 (in), 11 -IN 1 (in), 12 +IN 1 (in), 13 STBY 1 (in), 14 V+ (power), 15 OUT 2 (out), 16 STBY 2 (in), 17 +IN 2 (in), 18 V- (power), 19 GND (power), 20 MUTE 2 (in), 21 -IN 2 (in), 22 OUT 3 (out), 23 GND (power), 24 MUTE 3 (in), 25 -IN 3 (in), 26 +IN 3 (in), 27 STBY 3 (in)

## LM4802BLQ
designator U?
Audio Power Amplifier with DC-DC converter to drive Ceramic Speakers, 29-pin LLP; PartNumber: LM4802BLQ; Manufacturer: National Semiconductor; PackageTopMarking: NS*UZXYTT*4802BLQ; PowerWise: N; CompType: Audio IC; Published: 4-Dec-2008; DatasheetVersion: Mar-2005; PackageVersion: revB, Jul-2001; PackageReference: LQA28A; Publisher: Altium Limited; PackageDescription: LLP, Plastic, Quad, 5 x 5 x 0.75mm Body, 28 Lead, 0.5mm Pitch; Supplier 1: Farnell; Supplier Part Number 1: 1312768; RoHS: N; PinCount: 28; Code_JEDEC: MO-220-WHHD-1; ComponentLink1Description: LM4802B Datasheet; ComponentLink1URL: http://www.national.com/ds/LM/LM4802B.pdf; ComponentLink2Description: LM4802B Web Page; ComponentLink2URL: http://www.national.com/pf/LM/LM4802B.html; ComponentLink3Description: LQA28A Package Page; ComponentLink3URL: http://www.national.com/packaging/folders/lqa28a.html
footprint LQA28A (PQFN, 28-Leads, Body 5x5mm, Pitch 0.5mm, NSC Recommended)
pins: 1 NC, 2 NC, 3 NC, 4 VDD (power), 5 NC, 6 SD 1 (in), 7 GND (power), 8 FB, 9 NC, 10 NC, 11 SW, 12 GND (power), 13 NC, 14 NC, 15 NC, 16 NC, 17 VO2 (out), 18 SD 2 (in), 19 BYPASS, 20 GND (power), 21 IN+ (in), 22 IN- (in), 23 NC, 24 NC, 25 VO1 (out), 26 V1 (power), 27 NC, 28 NC, 29 DAP (power)

## LM4802BLQ/NOPB
designator U?
Audio Power Amplifier with DC-DC converter to drive Ceramic Speakers, 28-pin LLP, Pb-Free; PartNumber: LM4802BLQ/NOPB; Manufacturer: National Semiconductor; PackageTopMarking: NS*UZXYTT*4802BLQ; PowerWise: N; CompType: Audio IC; Published: 1-Mar-2010; DatasheetVersion: Mar-2005; PackageVersion: revB, Jul-2001; PackageReference: LQA28A; Publisher: Altium Limited; PackageDescription: LLP, Plastic, Quad, 5 x 5 x 0.75mm Body, 28 Lead, 0.5mm Pitch; Supplier 1: Digi-Key; Supplier Part Number 1: LM4802BLQTR-ND; Supplier 2: Digi-Key; Supplier Part Number 2: LM4802BLQCT-ND; Supplier 3: Digi-Key; Supplier Part Number 3: LM4802BLQDKR-ND; RoHS: Y; PinCount: 28; Code_JEDEC: MO-220-WHHD-1; ComponentLink1Description: LM4802B Datasheet; ComponentLink1URL: http://www.national.com/ds/LM/LM4802B.pdf; ComponentLink2Description: LM4802B Web Page; ComponentLink2URL: http://www.national.com/pf/LM/LM4802B.html; ComponentLink3Description: LQA28A Package Page; ComponentLink3URL: http://www.national.com/packaging/folders/lqa28a.html
footprint LQA28A (PQFN, 28-Leads, Body 5x5mm, Pitch 0.5mm, NSC Recommended)
pins: 1 NC, 2 NC, 3 NC, 4 VDD (power), 5 NC, 6 SD 1 (in), 7 GND (power), 8 FB, 9 NC, 10 NC, 11 SW, 12 GND (power), 13 NC, 14 NC, 15 NC, 16 NC, 17 VO2 (out), 18 SD 2 (in), 19 BYPASS, 20 GND (power), 21 IN+ (in), 22 IN- (in), 23 NC, 24 NC, 25 VO1 (out), 26 V1 (power), 27 NC, 28 NC, 29 DAP (power)

## LM4802BLQX
designator U?
Audio Power Amplifier with DC-DC converter to drive Ceramic Speakers, 28-pin LLP; PartNumber: LM4802BLQX; Manufacturer: National Semiconductor; PackageTopMarking: NS*UZXYTT*4802BLQ; PowerWise: N; CompType: Audio IC; Published: 1-Mar-2010; DatasheetVersion: Mar-2005; PackageVersion: revB, Jul-2001; PackageReference: LQA28A; Publisher: Altium Limited; PackageDescription: LLP, Plastic, Quad, 5 x 5 x 0.75mm Body, 28 Lead, 0.5mm Pitch; RoHS: N; PinCount: 28; Code_JEDEC: MO-220-WHHD-1; ComponentLink1Description: LM4802B Datasheet; ComponentLink1URL: http://www.national.com/ds/LM/LM4802B.pdf; ComponentLink2Description: LM4802B Web Page; ComponentLink2URL: http://www.national.com/pf/LM/LM4802B.html; ComponentLink3Description: LQA28A Package Page; ComponentLink3URL: http://www.national.com/packaging/folders/lqa28a.html
footprint LQA28A (PQFN, 28-Leads, Body 5x5mm, Pitch 0.5mm, NSC Recommended)
pins: 1 NC, 2 NC, 3 NC, 4 VDD (power), 5 NC, 6 SD 1 (in), 7 GND (power), 8 FB, 9 NC, 10 NC, 11 SW, 12 GND (power), 13 NC, 14 NC, 15 NC, 16 NC, 17 VO2 (out), 18 SD 2 (in), 19 BYPASS, 20 GND (power), 21 IN+ (in), 22 IN- (in), 23 NC, 24 NC, 25 VO1 (out), 26 V1 (power), 27 NC, 28 NC, 29 DAP (power)

## LM4804LQ
designator U?
Low Voltage High Power Audio Power Amplifier, 28 pin LLP; PartNumber: LM4804LQ; Manufacturer: National Semiconductor; PackageTopMarking: NS*UZXYTT*L4804LQ; PowerWise: N; CompType: Audio IC; Published: 16-Nov-2010; DatasheetVersion: Jun-2005; PackageVersion: revB, Jul-2001; PackageReference: LQA28A; Publisher: Altium Limited; PackageDescription: LLP, Plastic, Quad, 5 x 5 x 0.75mm Body, 28 Lead, 0.5mm Pitch; Supplier 1: Digi-Key; Supplier Part Number 1: LM4804LQTR-ND; Supplier 2: Digi-Key; Supplier Part Number 2: LM4804LQCT-ND; RoHS: N; PinCount: 28; Code_JEDEC: MO-220-WHHD-1; ComponentLink1Description: LM4804 Datasheet; ComponentLink1URL: http://www.national.com/ds/LM/LM4804.pdf; ComponentLink2Description: LM4804 Web Page; ComponentLink2URL: http://www.national.com/pf/LM/LM4804.html; ComponentLink3Description: LQA28A Package Page; ComponentLink3URL: http://www.national.com/packaging/folders/lqa28a.html
footprint LQA28A (PQFN, 28-Leads, Body 5x5mm, Pitch 0.5mm, NSC Recommended)
part A pins: 3 GND1 (power), 5 VDD (power), 6 BOOT, 7 SW, 8 IN- (in), 9 IN+ (in), 11 VO1 (power), 12 V1 (power), 14 VO2 (power), 18 S/D2, 19 BYPASS, 22 GND3 (power), 25 GND2 (power), 26 S/D1, 27 FREQ, 28 FB, 29 DAP (power)
part B pins: 1 NC, 2 NC, 4 NC, 10 NC, 13 NC, 15 NC, 16 NC, 17 NC, 20 NC, 21 NC, 23 NC, 24 NC

## LM4804LQ/NOPB
designator U?
Low Voltage High Power Audio Power Amplifier, 28 pin LLP; PartNumber: LM4804LQ/NOPB; Manufacturer: National Semiconductor; PackageTopMarking: NS*UZXYTT*L4804LQ; PowerWise: N; CompType: Audio IC; Published: 16-Nov-2010; DatasheetVersion: Jun-2005; PackageVersion: revB, Jul-2001; PackageReference: LQA28A; Publisher: Altium Limited; PackageDescription: LLP, Plastic, Quad, 5 x 5 x 0.75mm Body, 28 Lead, 0.5mm Pitch; Supplier 1: Digi-Key; Supplier Part Number 1: LM4804LQ/NOPBTR-ND; Supplier 2: Digi-Key; Supplier Part Number 2: LM4804LQ/NOPBCT-ND; Supplier 3: Digi-Key; Supplier Part Number 3: LM4804LQ/NOPBDKR-ND; RoHS: Y; PinCount: 28; Code_JEDEC: MO-220-WHHD-1; ComponentLink1Description: LM4804 Datasheet; ComponentLink1URL: http://www.national.com/ds/LM/LM4804.pdf; ComponentLink2Description: LM4804 Web Page; ComponentLink2URL: http://www.national.com/pf/LM/LM4804.html; ComponentLink3Description: LQA28A Package Page; ComponentLink3URL: http://www.national.com/packaging/folders/lqa28a.html
footprint LQA28A (PQFN, 28-Leads, Body 5x5mm, Pitch 0.5mm, NSC Recommended)
part A pins: 3 GND1 (power), 5 VDD (power), 6 BOOT, 7 SW, 8 IN- (in), 9 IN+ (in), 11 VO1 (power), 12 V1 (power), 14 VO2 (power), 18 S/D2, 19 BYPASS, 22 GND3 (power), 25 GND2 (power), 26 S/D1, 27 FREQ, 28 FB, 29 DAP (power)
part B pins: 1 NC, 2 NC, 4 NC, 10 NC, 13 NC, 15 NC, 16 NC, 17 NC, 20 NC, 21 NC, 23 NC, 24 NC

## LM4804LQX
designator U?
Low Voltage High Power Audio Power Amplifier, 28-pin LLP; PartNumber: LM4804LQX; Manufacturer: National Semiconductor; PackageTopMarking: NS*UZXYTT*L4804LQ; PowerWise: N; CompType: Audio IC; Published: 1-Mar-2010; DatasheetVersion: Jun-2005; PackageVersion: revB, Jul-2001; PackageReference: LQA28A; Publisher: Altium Limited; PackageDescription: LLP, Plastic, Quad, 5 x 5 x 0.75mm Body, 28 Lead, 0.5mm Pitch; Supplier 1: Digi-Key; Supplier Part Number 1: LM4804LQX-ND; RoHS: N; PinCount: 28; Code_JEDEC: MO-220-WHHD-1; ComponentLink1Description: LM4804 Datasheet; ComponentLink1URL: http://www.national.com/ds/LM/LM4804.pdf; ComponentLink2Description: LM4804 Web Page; ComponentLink2URL: http://www.national.com/pf/LM/LM4804.html; ComponentLink3Description: LQA28A Package Page; ComponentLink3URL: http://www.national.com/packaging/folders/lqa28a.html
footprint LQA28A (PQFN, 28-Leads, Body 5x5mm, Pitch 0.5mm, NSC Recommended)
part A pins: 3 GND1 (power), 5 VDD (power), 6 BOOT, 7 SW, 8 IN- (in), 9 IN+ (in), 11 VO1 (power), 12 V1 (power), 14 VO2 (power), 18 S/D2, 19 BYPASS, 22 GND3 (power), 25 GND2 (power), 26 S/D1, 27 FREQ, 28 FB, 29 DAP (power)
part B pins: 1 NC, 2 NC, 4 NC, 10 NC, 13 NC, 15 NC, 16 NC, 17 NC, 20 NC, 21 NC, 23 NC, 24 NC

## LM4805LQ
designator U?
Low Voltage High Power Audio Power Amplifier, 29-pin LLP; PartNumber: LM4805LQ; Manufacturer: National Semiconductor; PackageTopMarking: NS*UZXYTT*L4805LQ; PowerWise: N; CompType: Audio IC; Published: 4-Dec-2008; DatasheetVersion: Aug-2005; PackageVersion: revB, Jul-2001; PackageReference: LQA28A; Publisher: Altium Limited; PackageDescription: LLP, Plastic, Quad, 5 x 5 x 0.75mm Body, 28 Lead, 0.5mm Pitch; RoHS: N; PinCount: 28; Code_JEDEC: MO-220-WHHD-1; ComponentLink1Description: LM4805 Datasheet; ComponentLink1URL: http://www.national.com/ds/LM/LM4805.pdf; ComponentLink2Description: LM4805 Web Page; ComponentLink2URL: http://www.national.com/pf/LM/LM4805.html; ComponentLink3Description: LQA28A Package Page; ComponentLink3URL: http://www.national.com/packaging/folders/lqa28a.html
footprint LQA28A (PQFN, 28-Leads, Body 5x5mm, Pitch 0.5mm, NSC Recommended)
pins: 1 NC, 2 NC, 3 NC, 4 VDD (power), 5 NC, 6 SD 1 (in), 7 GND (power), 8 FB, 9 NC, 10 NC, 11 SW, 12 GND (power), 13 NC, 14 NC, 15 NC, 16 NC, 17 VO2 (out), 18 SD 2 (in), 19 BYPASS, 20 GND (power), 21 IN+ (in), 22 IN- (in), 23 NC, 24 NC, 25 VO1 (out), 26 V1 (power), 27 NC, 28 NC, 29 DAP (power)

## LM4805LQ/NOPB
designator U?
Low Voltage High Power Audio Power Ampliier, 28-pin LLP, Pb-Free; PartNumber: LM4805LQ/NOPB; Manufacturer: National Semiconductor; PackageTopMarking: NS*UZXYTT*L4805LQ; PowerWise: N; CompType: Audio IC; Published: 1-Mar-2010; DatasheetVersion: Aug-2005; PackageVersion: revB, Jul-2001; PackageReference: LQA28A; Publisher: Altium Limited; PackageDescription: LLP, Plastic, Quad, 5 x 5 x 0.75mm Body, 28 Lead, 0.5mm Pitch; Supplier 1: Digi-Key; Supplier Part Number 1: LM4805LQTR-ND; Supplier 2: Digi-Key; Supplier Part Number 2: LM4805LQCT-ND; Supplier 3: Digi-Key; Supplier Part Number 3: LM4805LQDKR-ND; RoHS: Y; PinCount: 28; Code_JEDEC: MO-220-WHHD-1; ComponentLink1Description: LM4805 Datasheet; ComponentLink1URL: http://www.national.com/ds/LM/LM4805.pdf; ComponentLink2Description: LM4805 Web Page; ComponentLink2URL: http://www.national.com/pf/LM/LM4805.html; ComponentLink3Description: LQA28A Package Page; ComponentLink3URL: http://www.national.com/packaging/folders/lqa28a.html
footprint LQA28A (PQFN, 28-Leads, Body 5x5mm, Pitch 0.5mm, NSC Recommended)
pins: 1 NC, 2 NC, 3 NC, 4 VDD (power), 5 NC, 6 SD 1 (in), 7 GND (power), 8 FB, 9 NC, 10 NC, 11 SW, 12 GND (power), 13 NC, 14 NC, 15 NC, 16 NC, 17 VO2 (out), 18 SD 2 (in), 19 BYPASS, 20 GND (power), 21 IN+ (in), 22 IN- (in), 23 NC, 24 NC, 25 VO1 (out), 26 V1 (power), 27 NC, 28 NC, 29 DAP (power)

## LM4805LQX
designator U?
Low Voltage High Power Audio Power Ampliier, 28-pin LLP; PartNumber: LM4805LQX; Manufacturer: National Semiconductor; PackageTopMarking: NS*UZXYTT*L4805LQ; PowerWise: N; CompType: Audio IC; Published: 1-Mar-2010; DatasheetVersion: Aug-2005; PackageVersion: revB, Jul-2001; PackageReference: LQA28A; Publisher: Altium Limited; PackageDescription: LLP, Plastic, Quad, 5 x 5 x 0.75mm Body, 28 Lead, 0.5mm Pitch; RoHS: N; PinCount: 28; Code_JEDEC: MO-220-WHHD-1; ComponentLink1Description: LM4805 Datasheet; ComponentLink1URL: http://www.national.com/ds/LM/LM4805.pdf; ComponentLink2Description: LM4805 Web Page; ComponentLink2URL: http://www.national.com/pf/LM/LM4805.html; ComponentLink3Description: LQA28A Package Page; ComponentLink3URL: http://www.national.com/packaging/folders/lqa28a.html
footprint LQA28A (PQFN, 28-Leads, Body 5x5mm, Pitch 0.5mm, NSC Recommended)
pins: 1 NC, 2 NC, 3 NC, 4 VDD (power), 5 NC, 6 SD 1 (in), 7 GND (power), 8 FB, 9 NC, 10 NC, 11 SW, 12 GND (power), 13 NC, 14 NC, 15 NC, 16 NC, 17 VO2 (out), 18 SD 2 (in), 19 BYPASS, 20 GND (power), 21 IN+ (in), 22 IN- (in), 23 NC, 24 NC, 25 VO1 (out), 26 V1 (power), 27 NC, 28 NC, 29 DAP (power)

## LM4808M
designator U?
Dual 105 mW Headphone Amplifier, 8-pin Narrow SOIC; PartNumber: LM4808M; Manufacturer: National Semiconductor; PackageTopMarking: NSZXTT*LM48*08M; PowerWise: N; CompType: Audio IC; Published: 4-Dec-2008; DatasheetVersion: Aug-2001; PackageVersion: revM, May-2009; PackageReference: M08A; Publisher: Altium Limited; PackageDescription: SOIC Narrow, 4.9 x 3.9 x 1.45mm, 8 Lead, 1.27mm Pitch; RoHS: N; PinCount: 8; Code_JEDEC: MS-012-AA; Code_IPC: SOIC127P600-8; ComponentLink1Description: LM4808 Datasheet; ComponentLink1URL: http://www.national.com/ds/LM/LM4808.pdf; ComponentLink2Description: LM4808 Web Page; ComponentLink2URL: http://www.national.com/pf/LM/LM4808.html; ComponentLink3Description: M08A Package Page; ComponentLink3URL: http://www.national.com/packaging/folders/m08a.html
footprint M08A_N (SOIC, 8-Leads, Body 4.9x3.9mm, Pitch 1.27mm, IPC Medium Density)
footprint M08A_L (SOIC, 8-Leads, Body 4.9x3.9mm, Pitch 1.27mm, IPC High Density)
footprint M08A_M (SOIC, 8-Leads, Body 4.9x3.9mm, Pitch 1.27mm, IPC Low Density)
pins: 1 OUT A (out), 2 IN A- (in), 3 IN A+ (in), 4 GND (power), 5 IN B+ (in), 6 IN B- (in), 7 OUT B (out), 8 VDD (power)

## LM4808M/NOPB
designator U?
Dual 105 mW Headphone Amplifier, 8-pin Narrow SOIC, Pb-Free; PartNumber: LM4808M/NOPB; Manufacturer: National Semiconductor; PackageTopMarking: NSZXTT*LM48*08M; PowerWise: N; CompType: Audio IC; Published: 1-Mar-2010; DatasheetVersion: Aug-2001; PackageVersion: revM, May-2009; PackageReference: M08A; Publisher: Altium Limited; PackageDescription: SOIC Narrow, 4.9 x 3.9 x 1.45mm, 8 Lead, 1.27mm Pitch; Supplier 1: Digi-Key; Supplier Part Number 1: LM4808M-ND; Supplier 2: Farnell; Supplier Part Number 2: 1694539; RoHS: Y; PinCount: 8; Code_JEDEC: MS-012-AA; Code_IPC: SOIC127P600-8; ComponentLink1Description: LM4808 Datasheet; ComponentLink1URL: http://www.national.com/ds/LM/LM4808.pdf; ComponentLink2Description: LM4808 Web Page; ComponentLink2URL: http://www.national.com/pf/LM/LM4808.html; ComponentLink3Description: M08A Package Page; ComponentLink3URL: http://www.national.com/packaging/folders/m08a.html
footprint M08A_N (SOIC, 8-Leads, Body 4.9x3.9mm, Pitch 1.27mm, IPC Medium Density)
footprint M08A_L (SOIC, 8-Leads, Body 4.9x3.9mm, Pitch 1.27mm, IPC High Density)
footprint M08A_M (SOIC, 8-Leads, Body 4.9x3.9mm, Pitch 1.27mm, IPC Low Density)
pins: 1 OUT A (out), 2 IN A- (in), 3 IN A+ (in), 4 GND (power), 5 IN B+ (in), 6 IN B- (in), 7 OUT B (out), 8 VDD (power)

## LM4808MM
designator U?
Dual 105 mW Headphone Amplifier, 8-pin Mini SOIC; PartNumber: LM4808MM; Manufacturer: National Semiconductor; PackageTopMarking: ZXTT*G08; PowerWise: N; CompType: Audio IC; Published: 4-Dec-2008; DatasheetVersion: Aug-2001; PackageVersion: revF, Apr-2008; PackageReference: MUA08A; Publisher: Altium Limited; PackageDescription: MINI SOIC, .118 x .118 x .034in, 8 Lead, .0256in Pitch; RoHS: N; PinCount: 8; Code_JEDEC: MO-187-AA; ComponentLink1Description: LM4808 Datasheet; ComponentLink1URL: http://www.national.com/ds/LM/LM4808.pdf; ComponentLink2Description: LM4808 Web Page; ComponentLink2URL: http://www.national.com/pf/LM/LM4808.html; ComponentLink3Description: MUA08A Package Page; ComponentLink3URL: http://www.national.com/packaging/folders/mua08a.html
footprint MUA08A_N (TSOP, 8-Leads, Body 3x3mm, Pitch 0.65mm, IPC Medium Density)
footprint MUA08A_L (TSOP, 8-Leads, Body 3x3mm, Pitch 0.65mm, IPC High Density)
footprint MUA08A_M (TSOP, 8-Leads, Body 3x3mm, Pitch 0.65mm, IPC Low Density)
pins: 1 OUT A (out), 2 IN A- (in), 3 IN A+ (in), 4 GND (power), 5 IN B+ (in), 6 IN B- (in), 7 OUT B (out), 8 VDD (power)

## LM4808MM/NOPB
designator U?
Dual 105 mW Headphone Amplifier, 8-pin Mini SOIC, Pb-Free; PartNumber: LM4808MM/NOPB; Manufacturer: National Semiconductor; PackageTopMarking: ZXTT*G08; PowerWise: N; CompType: Audio IC; Published: 1-Mar-2010; DatasheetVersion: Aug-2001; PackageVersion: revF, Apr-2008; PackageReference: MUA08A; Publisher: Altium Limited; PackageDescription: MINI SOIC, .118 x .118 x .034in, 8 Lead, .0256in Pitch; Supplier 1: Digi-Key; Supplier Part Number 1: LM4808MMTR-ND; Supplier 2: Digi-Key; Supplier Part Number 2: LM4808MMCT-ND; Supplier 3: Digi-Key; Supplier Part Number 3: LM4808MMDKR-ND; RoHS: Y; PinCount: 8; Code_JEDEC: MO-187-AA; ComponentLink1Description: LM4808 Datasheet; ComponentLink1URL: http://www.national.com/ds/LM/LM4808.pdf; ComponentLink2Description: LM4808 Web Page; ComponentLink2URL: http://www.national.com/pf/LM/LM4808.html; ComponentLink3Description: MUA08A Package Page; ComponentLink3URL: http://www.national.com/packaging/folders/mua08a.html
footprint MUA08A_N (TSOP, 8-Leads, Body 3x3mm, Pitch 0.65mm, IPC Medium Density)
footprint MUA08A_L (TSOP, 8-Leads, Body 3x3mm, Pitch 0.65mm, IPC High Density)
footprint MUA08A_M (TSOP, 8-Leads, Body 3x3mm, Pitch 0.65mm, IPC Low Density)
pins: 1 OUT A (out), 2 IN A- (in), 3 IN A+ (in), 4 GND (power), 5 IN B+ (in), 6 IN B- (in), 7 OUT B (out), 8 VDD (power)